# Altium schematic symbol library Diode SMD Schottky SOD-123.SchLib: 1 symbol
Pins are listed as number, name and electrical type; pins without a type are passive.

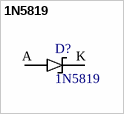
[diagram p0: symbol 1N5819]

## 1N5819
designator D?
SCHOTTKY BARRIER DIODES (SBD) SOD-123F ROHS; Manufacturer: Shandong Jingdao Microelectronics; MFR.Part #: 1N5819W; LCSC Part #: C169540; Package: SOD-123; ComponentLink1Description: Datasheet; ComponentLink1URL: https://datasheet.lcsc.com/szlcsc/Shandong-Jingdao-Microelectronics-1N5819W_C169540.pdf
footprint PCBComponent_1
pins: A, K